# EAGLE library part PCA9527 (library reclone-rise)
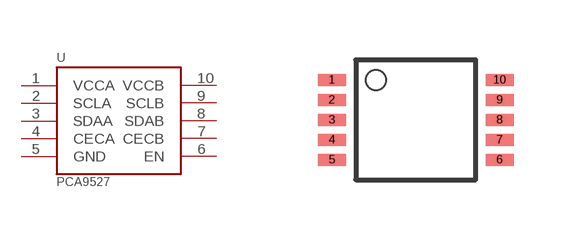
[diagram p5: symbol with the pads of TSSOP10; footprint TSSOP10]

Designator prefix -

## PCA9527  [TSSOP10]
1  VCCA
2  SCLA
3  SDAA
4  CECA
5  GND
6  EN
7  CECB
8  SDAB
9  SCLB
10  VCCB

## Footprint TSSOP10 (pad centres in mm)
smd 0.7 x 0.3: 1 -2.1,1; 2 -2.1,0.5; 3 -2.1,0; 4 -2.1,-0.5; 5 -2.1,-1; 6 2.1,-1; 7 2.1,-0.5; 8 2.1,0; 9 2.1,0.5; 10 2.1,1